# EAGLE library part 74HC4053 (library harrison)
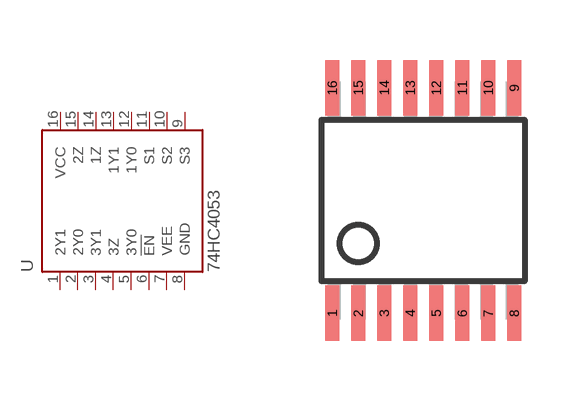
[diagram p92: symbol with the pads of TSSOP-16; footprint TSSOP-16]

Designator prefix U

## 74HC4053_TSSOP-16  [TSSOP-16]
1  2Y1
2  2Y0
3  3Y1
4  3Z
5  3Y0
6  !EN!  in
7  VEE  pwr
8  GND  pwr
9  S3  in
10  S2  in
11  S1  in
12  1Y0
13  1Y1
14  1Z
15  2Z
16  VCC  pwr

## Footprint TSSOP-16 (pad centres in mm)
smd 0.348 x 1.397: 1 -2.273,-2.814; 2 -1.623,-2.815; 3 -0.973,-2.815; 4 -0.323,-2.815; 5 0.327,-2.815; 6 0.977,-2.815; 7 1.627,-2.815; 8 2.277,-2.815; 9 2.277,2.825; 10 1.627,2.825; 11 0.977,2.825; 12 0.327,2.825; 13 -0.323,2.825; 14 -0.973,2.825; 15 -1.623,2.825; 16 -2.273,2.825